# EAGLE library part 62501021721 (library Wuerth_Elektronik_eiCan_05_Box_Header_IDC_Connectors_1_2)
WR-BHD 2.00mm Male Angled Box Header, 10 pins
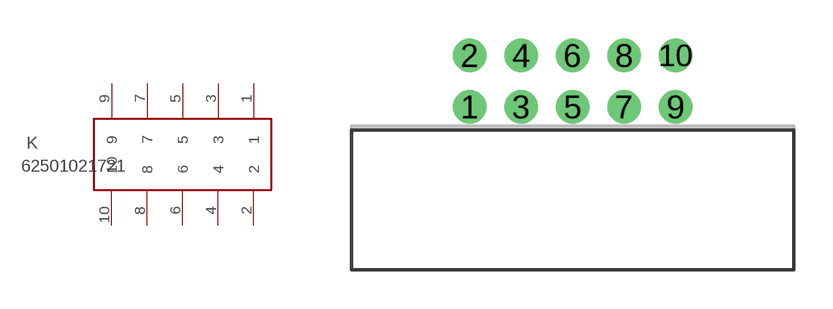
[diagram p19: symbol with the pads of 62501021721; footprint 62501021721]

Designator prefix K

## 62501021721  [62501021721]
1  1  pas
2  2  pas
3  3  pas
4  4  pas
5  5  pas
6  6  pas
7  7  pas
8  8  pas
9  9  pas
10  10  pas

## Footprint 62501021721 (pad centres in mm)
WR-BHD 2.00mm Male Angled Box Header, 10 pins
drill 0.8: 1 -4,-1; 2 -4,1; 3 -2,-1; 4 -2,1; 5 0,-1; 6 0,1; 7 2,-1; 8 2,1; 9 4,-1; 10 4,1